# Altium footprint library LARS_409_CONNECTORS.PCBLIB: 109 footprints (part 2 of 7)
Each footprint in its own frame and in the unit in brackets; x right, y up, seen from the top. Pads: shape width x height; smd on the part's side, far side on the other; paste and mask are expansions set on the pad; w line width, h text height; cw(c..) or ccw(c..) is an arc to the next point about the centre after c.
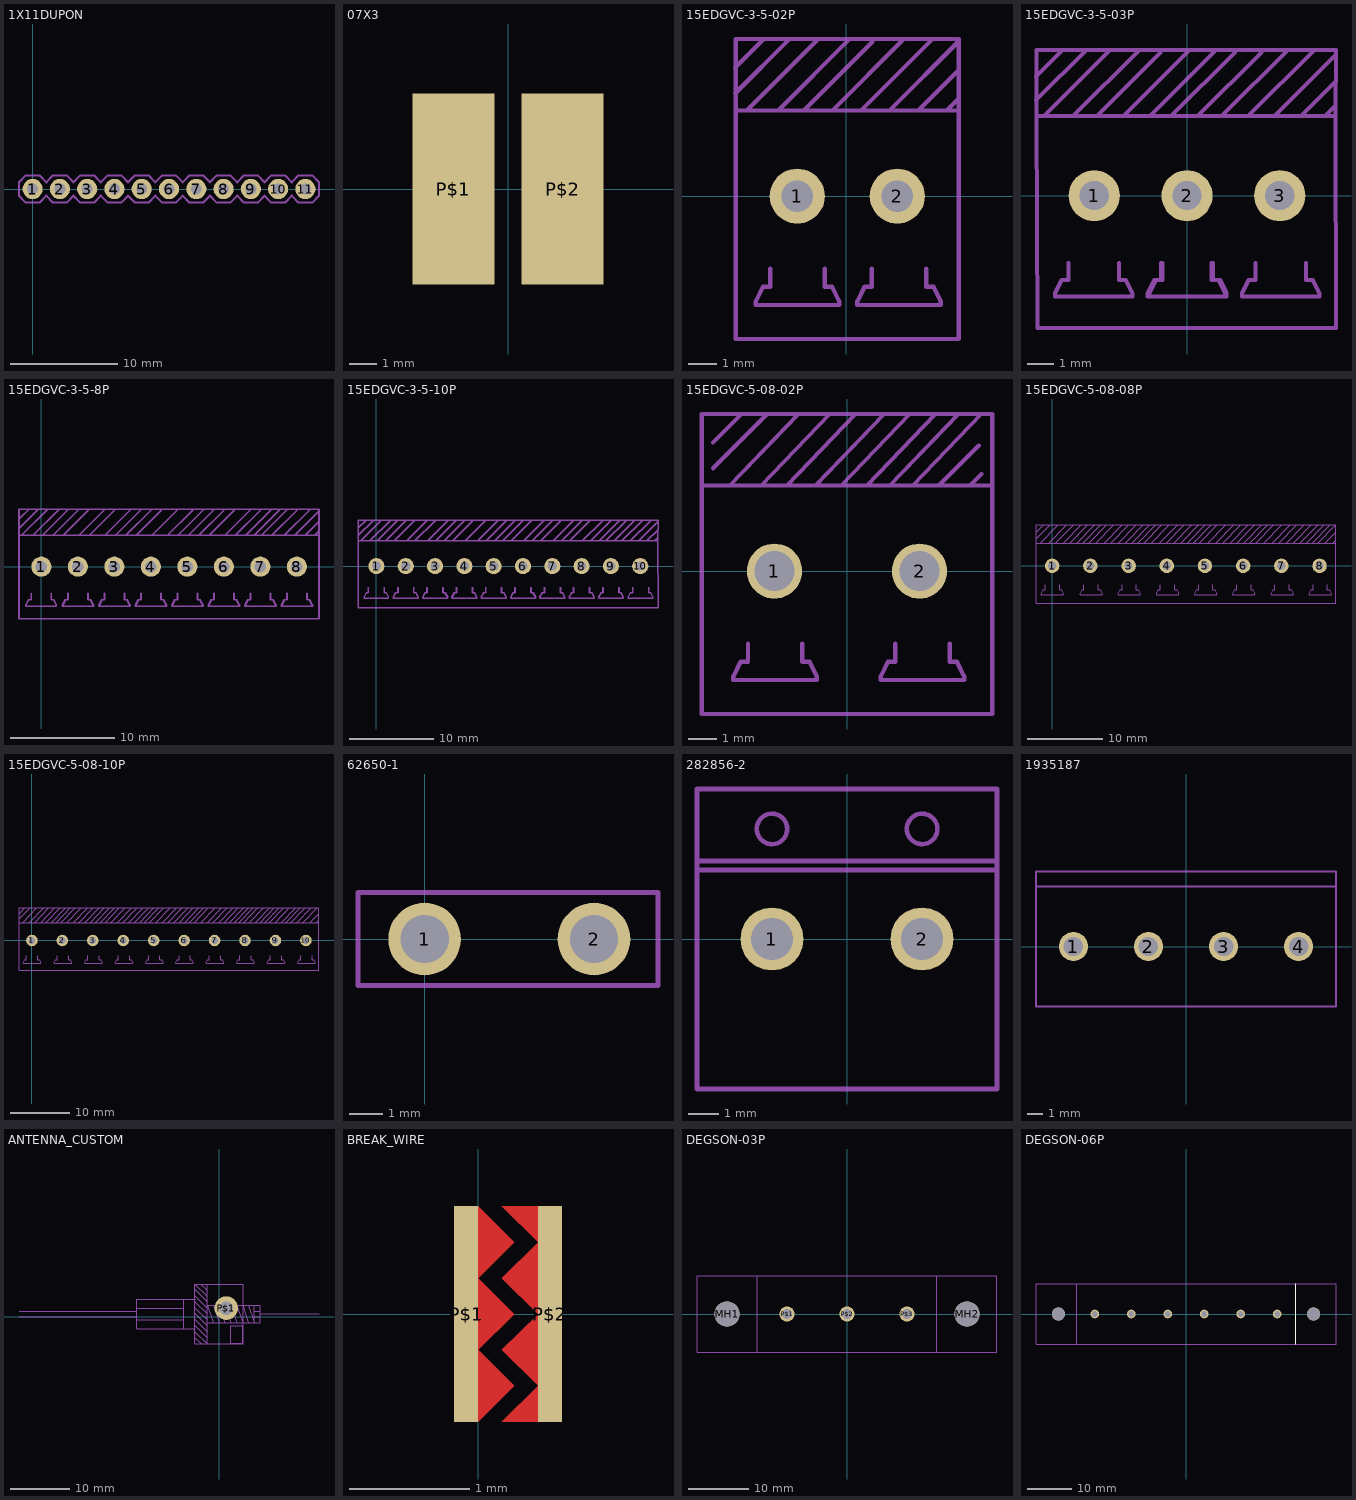
[diagram p1: the footprints below, top view; thin cyan lines are the x and y axes]

## 1X11DUPON [mil]
pads (11):
  round 74 hole 40: 1(0,0) 2(100,0) 3(200,0) 4(300,0) 5(400,0) 6(500,0) 7(600,0) 8(700,0) 9(800,0) 10(900,0) 11(1000,0)
tDocu:
  region: 590,-10 590,10 610,10 610,-10
  region: 490,-10 490,10 510,10 510,-10
  region: 390,-10 390,10 410,10 410,-10
  region: 290,-10 290,10 310,10 310,-10
  region: 190,-10 190,10 210,10 210,-10
  region: 90,-10 90,10 110,10 110,-10
  region: -10,-10 -10,10 10,10 10,-10
  region: 690,-10 690,10 710,10 710,-10
  region: 790,-10 790,10 810,10 810,-10
  region: 890,-10 890,10 910,10 910,-10
tPlace:
  lines w8: -50,-25 -50,25 -25,50 25,50 50,25 75,50 125,50 150,25 175,50 225,50 250,25 275,50 325,50 350,25 375,50 425,50 450,25 475,50 525,50 550,25 575,50 625,50 650,25 675,50 725,50 750,25 775,50 825,50 850,25 875,50 925,50 950,25 975,50 1025,50 1050,25 1050,-25 1025,-50 975,-50 950,-25 925,-50 875,-50 850,-25 825,-50 775,-50 750,-25 725,-50 675,-50 650,-25 625,-50 575,-50 550,-25 525,-50 475,-50 450,-25 425,-50 375,-50 350,-25 325,-50 275,-50 250,-25 225,-50 175,-50 150,-25 125,-50 75,-50 50,-25 25,-50 -25,-50 -50,-25

## 07X3 [mm]
pads (2):
  rect 3x7 smd: P$1(-2,0) P$2(2,0)

## 15EDGVC-3-5-02P [mil]
pads (2):
  round 76 hole 43.31: 1(-67.8,0) 2(70,0)
tPlace:
  lines w6: -153.23,141.73 -78.43,216.54 ; -153.23,177.17 -113.86,216.54 ; -105,-100 -105,-125 -115,-125 -125,-145 -125,-150 -10,-150 -10,-145 -20,-125 -30,-125 -30,-100 ; 35,-100 35,-125 25,-125 15,-145 15,-150 130,-150 130,-145 120,-125 110,-125 110,-100 ; 35.75,212.6 -58.74,118.11 ; 153.86,133.86 138.11,118.11 ; 153.86,173.23 98.74,118.11 ; 153.86,212.6 59.37,118.11 ; -152.44,118.11 -137.48,118.11 ; -152.44,118.11 -152.44,-196.85 154.65,-196.85 154.65,118.11 ; -152.44,118.11 -152.44,216.54 -113.86,216.54 ; -137.48,118.11 -94.17,118.11 ; -137.48,118.11 -39.06,216.54 ; -113.86,216.54 -78.43,216.54 ; -94.17,118.11 -58.74,118.11 ; -94.17,118.11 4.25,216.54 ; -78.43,216.54 -39.06,216.54 ; -58.74,118.11 -19.37,118.11 ; -39.06,216.54 4.25,216.54 ; -19.37,118.11 20,118.11 ; -19.37,118.11 79.06,216.54 ; 4.25,216.54 79.06,216.54 ; 20,118.11 59.37,118.11 ; 20,118.11 118.43,216.54 ; 59.37,118.11 98.74,118.11 ; 79.06,216.54 118.43,216.54 ; 98.74,118.11 138.11,118.11 ; 118.43,216.54 154.65,216.54 154.65,118.11 ; 138.11,118.11 154.65,118.11

## 15EDGVC-3-5-03P [mil]
pads (3):
  round 76 hole 43.31: 1(-137.8,0) 2(0,0) 3(137.8,0)
tPlace:
  lines w6: -224.41,141.73 -149.61,216.54 ; -224.41,177.17 -185.04,216.54 ; -176.18,-100 -176.18,-125 -186.18,-125 -196.18,-145 -196.18,-150 -81.18,-150 -81.18,-145 -91.18,-125 -101.18,-125 -101.18,-100 ; -85.83,-196.85 221.26,-196.85 220.47,118.11 ; -85.83,216.54 149.61,216.54 ; -39.37,212.6 -133.86,118.11 ; -38.39,-100 -38.39,-125 -48.39,-125 -58.39,-145 -58.39,-150 56.61,-150 56.61,-145 46.61,-125 36.61,-125 36.61,-100 ; -36.18,-100 -36.18,-125 -46.18,-125 -56.18,-145 -56.18,-150 58.82,-150 58.82,-145 48.82,-125 38.82,-125 38.82,-100 ; 27.56,118.11 51.18,118.11 ; 70.87,212.6 -23.62,118.11 ; 83.46,-196.85 -222.44,-196.85 -223.62,118.11 ; 83.46,118.11 15.75,118.11 ; 83.46,216.54 43.31,216.54 ; 101.61,-100 101.61,-125 91.61,-125 81.61,-145 81.61,-150 196.61,-150 196.61,-145 186.61,-125 176.61,-125 176.61,-100 ; 110.24,212.6 15.75,118.11 ; 220.47,133.86 204.72,118.11 ; 220.47,169.29 169.29,118.11 ; 220.47,208.66 129.92,118.11 ; -223.62,118.11 -212.6,118.11 ; -223.62,118.11 -223.62,216.54 -185.04,216.54 ; -212.6,118.11 -169.29,118.11 ; -212.6,118.11 -114.17,216.54 ; -185.04,216.54 -149.61,216.54 ; -169.29,118.11 -133.86,118.11 ; -169.29,118.11 -70.87,216.54 ; -149.61,216.54 -114.17,216.54 ; -133.86,118.11 -94.49,118.11 ; -114.17,216.54 -70.87,216.54 ; -94.49,118.11 3.94,216.54 ; -94.49,118.11 -55.12,118.11 ; -70.87,216.54 3.94,216.54 ; -55.12,118.11 -23.62,118.11 ; -55.12,118.11 43.31,216.54 ; -23.62,118.11 15.75,118.11 ; 3.94,216.54 43.31,216.54 ; 51.18,118.11 90.55,118.11 ; 51.18,118.11 149.61,216.54 ; 90.55,118.11 129.92,118.11 ; 90.55,118.11 188.98,216.54 ; 129.92,118.11 169.29,118.11 ; 149.61,216.54 188.98,216.54 ; 169.29,118.11 204.72,118.11 ; 188.98,216.54 221.26,216.54 220.47,118.11 ; 204.72,118.11 220.47,118.11

## 15EDGVC-3-5-8P [mil]
pads (8):
  round 76 hole 43.31: 1(0.59,0) 2(138.39,0) 3(276.18,0) 4(413.98,0) 5(551.77,0) 6(689.57,0) 7(827.36,0) 8(965.16,0)
tPlace:
  drawing of 187 lines, arcs and shapes, not listed

## 15EDGVC-3-5-10P [mil]
pads (10):
  round 76 hole 43.31: 1(0,0) 2(137.8,0) 3(275.59,0) 4(413.39,0) 5(551.18,0) 6(688.98,0) 7(826.77,0) 8(964.57,0) 9(1102.36,0) 10(1240.16,0)
tPlace:
  drawing of 223 lines, arcs and shapes, not listed

## 15EDGVC-5-08-02P [mil]
pads (2):
  round 76 hole 55.12: 1(-100,0) 2(100,0)
tPlace:
  lines w5: -161.42,118.11 -66.93,216.54 ; -118.11,118.11 -23.62,216.54 ; -82.68,118.11 11.81,216.54 ; -43.31,118.11 51.18,216.54 ; -7.87,118.11 86.61,216.54 ; 27.56,118.11 122.05,216.54 ; 59.06,118.11 153.54,216.54 ; 90.55,118.11 185.04,216.54
  lines w6: -184.72,141.73 -109.92,216.54 ; -184.72,177.17 -145.35,216.54 ; -136.5,-100 -136.5,-125 -146.5,-125 -156.5,-145 -156.5,-150 -41.5,-150 -41.5,-145 -51.5,-125 -61.5,-125 -61.5,-100 ; 66.5,-100 66.5,-125 56.5,-125 46.5,-145 46.5,-150 161.5,-150 161.5,-145 151.5,-125 141.5,-125 141.5,-100 ; 181.42,173.23 126.3,118.11 ; 185.35,133.86 169.61,118.11 ; -200,118.11 -161.42,118.11 -118.11,118.11 -82.68,118.11 -43.31,118.11 -7.87,118.11 27.56,118.11 59.06,118.11 90.55,118.11 126.3,118.11 ; -200,118.11 -200,-196.85 200,-196.85 200,118.11 ; -200,118.11 -200,216.54 -145.35,216.54 ; -145.35,216.54 -109.92,216.54 ; -109.92,216.54 -66.93,216.54 -23.62,216.54 11.81,216.54 51.18,216.54 86.61,216.54 122.05,216.54 153.54,216.54 185.04,216.54 200,216.54 200,118.11 ; 126.3,118.11 169.61,118.11 ; 169.61,118.11 200,118.11

## 15EDGVC-5-08-08P [mil]
pads (8):
  round 76 hole 43.31: 1(0,0) 2(200,0) 3(400,0) 4(600,0) 5(800,0) 6(1000,0) 7(1200,0) 8(1400,0)
tPlace:
  lines w5: -61.42,118.11 33.07,216.54 ; -18.11,118.11 76.38,216.54 ; 17.32,118.11 111.81,216.54 ; 56.69,118.11 151.18,216.54 ; 92.13,118.11 186.61,216.54 ; 127.56,118.11 222.05,216.54 ; 159.06,118.11 253.54,216.54 ; 190.55,118.11 285.04,216.54 ; 228.58,118.11 323.07,216.54 ; 271.89,118.11 366.38,216.54 ; 307.32,118.11 401.81,216.54 ; 346.69,118.11 441.18,216.54 ; 382.13,118.11 476.61,216.54 ; 417.56,118.11 512.05,216.54 ; 449.06,118.11 543.54,216.54 ; 480.55,118.11 575.04,216.54 ; 518.58,118.11 613.07,216.54 ; 561.89,118.11 656.38,216.54 ; 597.32,118.11 691.81,216.54 ; 636.69,118.11 731.18,216.54 ; 672.13,118.11 766.61,216.54 ; 707.56,118.11 802.05,216.54 ; 739.06,118.11 833.54,216.54 ; 770.55,118.11 865.04,216.54 ; 813.58,118.11 908.07,216.54 ; 856.89,118.11 951.38,216.54 ; 892.32,118.11 986.81,216.54 ; 931.69,118.11 1026.18,216.54 ; 967.13,118.11 1061.61,216.54 ; 1002.56,118.11 1097.05,216.54 ; 1034.06,118.11 1128.54,216.54 ; 1065.55,118.11 1160.04,216.54 ; 1108.58,118.11 1203.07,216.54 ; 1151.89,118.11 1246.38,216.54 ; 1187.32,118.11 1281.81,216.54 ; 1226.69,118.11 1321.18,216.54 ; 1262.13,118.11 1356.61,216.54 ; 1297.56,118.11 1392.05,216.54 ; 1329.06,118.11 1423.54,216.54 ; 1360.55,118.11 1455.04,216.54 ; 1390.55,118.11 1485.04,216.54
  lines w6: -84.72,141.73 -9.92,216.54 ; -84.72,177.17 -45.35,216.54 ; -36.5,-100 -36.5,-125 -46.5,-125 -56.5,-145 -56.5,-150 58.5,-150 58.5,-145 48.5,-125 38.5,-125 38.5,-100 ; 166.5,-100 166.5,-125 156.5,-125 146.5,-145 146.5,-150 261.5,-150 261.5,-145 251.5,-125 241.5,-125 241.5,-100 ; 366.5,-100 366.5,-125 356.5,-125 346.5,-145 346.5,-150 461.5,-150 461.5,-145 451.5,-125 441.5,-125 441.5,-100 ; 566.5,-100 566.5,-125 556.5,-125 546.5,-145 546.5,-150 661.5,-150 661.5,-145 651.5,-125 641.5,-125 641.5,-100 ; 766.5,-100 766.5,-125 756.5,-125 746.5,-145 746.5,-150 861.5,-150 861.5,-145 851.5,-125 841.5,-125 841.5,-100 ; 966.5,-100 966.5,-125 956.5,-125 946.5,-145 946.5,-150 1061.5,-150 1061.5,-145 1051.5,-125 1041.5,-125 1041.5,-100 ; 1166.5,-100 1166.5,-125 1156.5,-125 1146.5,-145 1146.5,-150 1261.5,-150 1261.5,-145 1251.5,-125 1241.5,-125 1241.5,-100 ; 1366.5,-100 1366.5,-125 1356.5,-125 1346.5,-145 1346.5,-150 1461.5,-150 1461.5,-145 1451.5,-125 1441.5,-125 1441.5,-100 ; 1481.42,173.23 1426.3,118.11 ; 1485.35,133.86 1469.61,118.11 ; -83.94,118.11 -61.42,118.11 -18.11,118.11 17.32,118.11 56.69,118.11 92.13,118.11 127.56,118.11 159.06,118.11 190.55,118.11 1390.55,118.11 1426.3,118.11 ; -83.94,118.11 -83.94,-196.85 1486.14,-196.85 1486.14,118.11 ; -83.94,118.11 -83.94,216.54 -45.35,216.54 ; -45.35,216.54 -9.92,216.54 ; -9.92,216.54 33.07,216.54 76.38,216.54 111.81,216.54 151.18,216.54 186.61,216.54 222.05,216.54 253.54,216.54 285.04,216.54 1485.04,216.54 1486.14,216.54 1486.14,118.11 ; 1426.3,118.11 1469.61,118.11 ; 1469.61,118.11 1486.14,118.11

## 15EDGVC-5-08-10P [mil]
pads (10):
  round 76 hole 43.31: 1(0,0) 2(200,0) 3(400,0) 4(600,0) 5(800,0) 6(1000,0) 7(1200,0) 8(1400,0) 9(1600,0) 10(1800,0)
tPlace:
  drawing of 177 lines, arcs and shapes, not listed

## 62650-1 [mil]
pads (2):
  round 85.64 hole 57.09: 1(0,0) 2(200,0)
tPlace:
  lines w6: -78.74,-55.12 275.59,-55.12 275.59,55.12 -78.74,55.12 -78.74,-55.12

## 282856-2 [mil]
pads (2):
  round 82.68 hole 55.12: 1(-98.43,0) 2(98.43,0)
tPlace:
  circle w6: c-98.43,144.48 r20
  circle w6: c98.57,144.48 r20
  lines w6: -196.42,157.13 -196.42,165.12 ; -196.85,90.55 -196.85,-196.85 196.85,-196.85 196.85,90.55 ; -196.85,90.55 -196.85,102.36 ; -196.85,90.55 196.85,90.55 ; -196.85,102.36 -196.85,196.85 196.85,196.85 196.85,102.36 ; -196.85,102.36 196.85,102.36 ; 196.85,90.55 196.85,102.36
  text "1" at -170.55,117.91 h77.5
  text "2" at 20.51,117.91 h77.5

## 1935187 [mil]
pads (4):
  round 76.77 hole 51.18: 1(-295.28,0) 2(-98.43,0) 3(98.43,0) 4(295.28,0)
tPlace:
  lines w5: -393.7,157.48 -393.7,-157.48 393.7,-157.48 393.7,157.48 ; -393.7,157.48 393.7,157.48 ; -393.7,157.48 -393.7,196.85 393.7,196.85 393.7,157.48

## ANTENNA_CUSTOM [mm]
pads (1):
  round 4 hole 2.3: P$1(1.25,1.5)
Dimension:
  lines w0.001: 2,-4.5 4,-4.5 4,-1.5 2,-1.5 2,-4.5
tPlace:
  lines w0.102: -4.1,-3.5 -4.1,-2.5 ; -4.1,-3.5 -4.1,-4.6 -3,-4.6 ; -4.1,-3.5 -3,-4.6 ; -4.1,-2.5 -4.1,-1.4 ; -4.1,-2.5 -2,-4.6 ; -4.1,-1.4 -4.1,-0.4 ; -4.1,-1.4 -2,-3.5 ; -4.1,-0.4 -4.1,0.6 ; -4.1,-0.4 -2,-2.5 ; -4.1,0.6 -4.1,1.6 ; -4.1,0.6 -2,-1.5 ; -4.1,1.6 -4.1,2.6 ; -4.1,1.6 -2,-0.5 ; -4.1,2.6 -4.1,3.6 ; -4.1,2.6 -2,0.5 ; -4.1,3.6 -4.1,4.7 ; -4.1,3.6 -2,1.5 ; -4.1,4.7 -4.1,5.6 ; -4.1,4.7 -2,2.6 ; -4.1,5.6 -3.1,5.6 ; -4.1,5.6 -2,3.5 ; -3.1,5.6 -2,5.6 ; -3.1,5.6 -2,4.5 ; -3,-4.6 -2,-4.6 ; -2,-4.6 4.1,-4.6 4.1,5.6 -2,5.6 ; -2,-4.6 -2,-3.5 ; -2,-3.5 -2,-2.5 ; -2,-2.5 -2,-1.5 ; -2,-1.5 -2,-1 -2,-0.5 ; -2,-0.5 -2,0.5 ; -2,0.5 -2,1.5 ; -2,1.5 -2,2 -2,2.6 ; -2,2.6 -2,3.5 ; -2,3.5 -2,4.5 ; -2,4.5 -2,5.6
tGlue:
  lines w0.152: -34,0 -14,0 ; -34,1 -14,1 ; -14,-0.5 -6,-0.5 ; -14,1.5 -6,1.5 ; -4,-2 -6,-2 ; -4,3 -6,3 ; -2,-1 -1,-1 ; 6,0 7,0 ; 6,1 7,1 ; 17,0.5 7,0.5 ; -14,0 -14,1 ; -14,0 -14,-2 -6,-2 ; -14,1 -14,3 -6,3 ; -6,-2 -6,-0.5 ; -6,-0.5 -6,1.5 ; -6,1.5 -6,3 ; -1,-1 0,-1 ; -1,-1 -2,2 -1,2 ; -1,2 0,2 ; -1,2 0,-1 ; 0,-1 1,-1 ; 0,2 1,2 ; 0,2 1,-1 ; 1,-1 2,-1 ; 1,2 2,2 ; 1,2 2,-1 ; 2,-1 3,-1 ; 2,2 3,2 ; 2,2 3,-1 ; 3,-1 4,-1 ; 3,2 4,2 ; 3,2 4,-1 ; 4,-1 5,-1 ; 4,2 5,2 ; 4,2 5,-1 ; 5,-1 6,-1 ; 5,2 6,2 ; 5,2 6,-1 ; 6,-1 7,-1 7,0 ; 6,-1 6,2 ; 6,2 7,2 7,1 ; 7,0 7,0.5 ; 7,0.5 7,1

## BREAK_WIRE [mil]
pads (2):
  rect 7.87x70.87 smd mask+0: P$1(-3.94,0) P$2(23.62,0)
Top:
  region: 0,-35.43 11.81,-23.62 0,-11.81
  region: 0,-11.81 11.81,0 0,11.81 11.81,23.62 0,35.43
  region: 7.87,-35.43 19.69,-23.62 7.87,-11.81 19.69,0 7.87,11.81 19.69,23.62 7.87,35.43 19.69,35.43 19.69,-35.43

## DEGSON-03P [mil]
pads (5):
  round 165.35 hole 165.35 unplated: MH1(-787.4,0) MH2(787.4,0)
  round 100.39 hole 66.93: P$1(-393.7,0) P$2(0,0) P$3(393.7,0)
tPlace:
  lines w5: 590.55,-250 590.55,250 ; -590.55,-251.97 984.25,-251.97 984.25,251.97 -590.55,251.97 ; -590.55,-251.97 -984.25,-251.97 -984.25,251.97 -590.55,251.97 ; -590.55,-251.97 -590.55,251.97

## DEGSON-06P [mm]
pads (8):
  round 3 hole 3 unplated: MH1(-28.875,0) MH2(28.875,0)
  round 1.95 hole 1.3: P$1(-20.625,0) P$2(-12.375,0) P$3(-4.125,0) P$4(4.125,0) P$5(12.375,0) P$6(20.625,0)
Top Overlay:
  lines w0.152: 24.875,-6.8 24.875,6.8
tPlace:
  lines w0.152: -24.75,-6.8 -33.95,-6.8 -33.95,6.8 -24.75,6.8 ; -24.75,-6.8 33.95,-6.8 33.95,6.8 -24.75,6.8 ; -24.75,-6.8 -24.75,6.8